# Altium footprint library Oscillator.PcbLib: 70 footprints (part 5 of 5)
Each footprint in its own frame and in the unit in brackets; x right, y up, seen from the top. Pads: shape width x height; smd on the part's side, far side on the other; paste and mask are expansions set on the pad; w line width, h text height; cw(c..) or ccw(c..) is an arc to the next point about the centre after c.
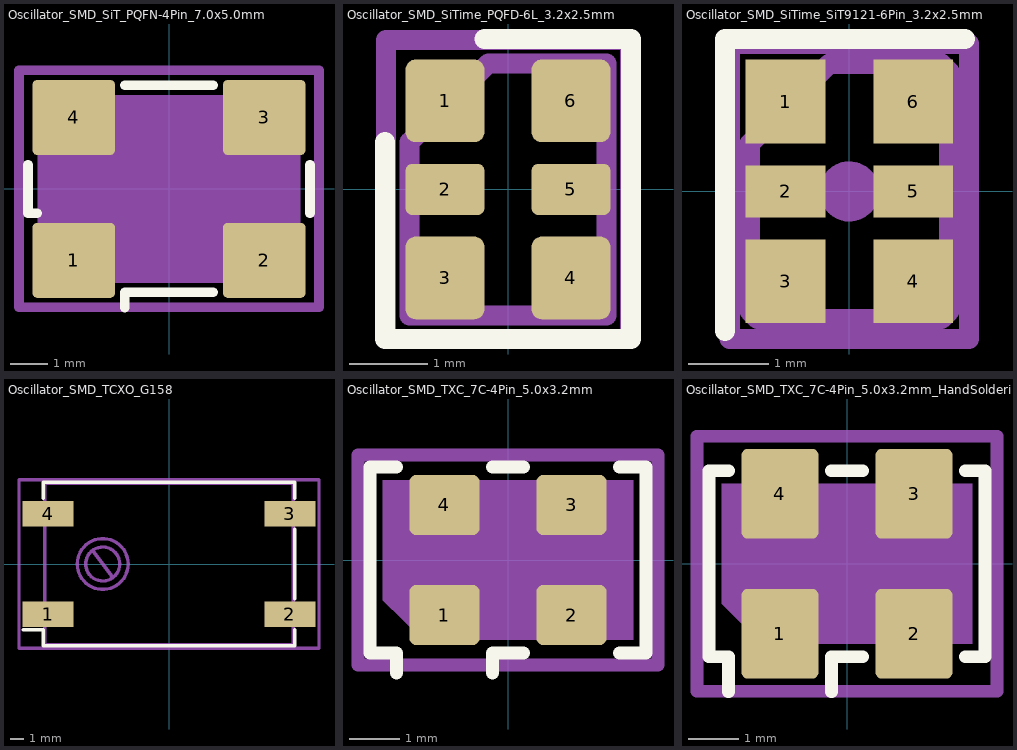
[diagram p4: the footprints below, top view; thin cyan lines are the x and y axes]

## Oscillator_SMD_SiT_PQFN-4Pin_7.0x5.0mm [mm]
pads (4):
  rrect12% 2.2x2 smd: 1(-2.54,-1.905) 2(2.54,-1.905) 3(2.54,1.905) 4(-2.54,1.905)
F.SilkS:
  lines w0.254: -3.76,0.645 -3.76,-0.645 -3.52,-0.645 ; -1.18,-3.165 -1.18,-2.76 1.18,-2.76 ; -1.18,2.76 1.18,2.76 ; 3.76,-0.645 3.76,0.645
Top Assembly:
  region: 3.5,-2.5 -2.5,-2.5 -3.5,-1.5 -3.5,2.5 3.5,2.5
  text "'.Designator'" at -4.047,-0.84 h1
Top Courtyard:
  lines w0.254: -4,-3.16 4,-3.16 4,3.16 -4,3.16 -4,-3.16
Top Designator:
  text ".Designator" at -7.652,-0.51 h1.52
Top Glue Points:
  circle w0.254: c0,0 r0.5

## Oscillator_SMD_SiTime_PQFD-6L_3.2x2.5mm [mm]
pads (6):
  rrect25% 1x1.05 smd: 1(-0.8,1.125) 3(-0.8,-1.125) 4(0.8,-1.125) 6(0.8,1.125)
  rrect25% 1x0.65 smd: 2(-0.8,0) 5(0.8,0)
F.SilkS:
  lines w0.254: -1.56,0.6 -1.56,-1.9 1.56,-1.9 1.56,1.905 ; -0.3,1.91 1.56,1.91
Top Assembly:
  lines w0.254: -1.25,-1.6 1.25,-1.6 1.25,1.6 -0.25,1.6 -1.25,0.6 -1.25,-1.6
  text "'.Designator'" at 0.588,-2.833 h0.7
Top Courtyard:
  lines w0.254: -1.55,-1.9 1.55,-1.9 1.55,1.9 -1.55,1.9 -1.55,-1.9
Top Designator:
  text ".Designator" at -7.618,-0.613 h1.52

## Oscillator_SMD_SiTime_SiT9121-6Pin_3.2x2.5mm [mm]
pads (6):
  rect 1x1.05 smd: 1(-0.8,1.125) 3(-0.8,-1.125) 4(0.8,-1.125) 6(0.8,1.125)
  rect 1x0.65 smd: 2(-0.8,0) 5(0.8,0)
F.SilkS:
  lines w0.254: -1.56,-1.75 -1.56,1.91 1.45,1.91
Top Assembly:
  lines w0.254: -1.25,-1.5 -1.15,-1.6 1.15,-1.6 1.25,-1.5 1.25,1.5 1.15,1.6 -0.25,1.6 -1.25,0.6 -1.25,-1.5
  text "'.Designator'" at 0.588,-2.833 h0.7
Top Courtyard:
  lines w0.254: -1.5,-1.85 1.5,-1.85 1.5,1.85 -1.5,1.85 -1.5,-1.85
Top Designator:
  text ".Designator" at -7.648,-0.613 h1.52
Top Glue Points:
  circle w0.254: c0,0 r0.25
  circle w0.254: c0,0 r0.208
  circle w0.254: c0,0 r0.133
  circle w0.254: c0,0 r0.058

## Oscillator_SMD_TCXO_G158 [mm]
pads (4):
  rect 3.81x1.91 smd: 1(-9.02,-3.75) 2(9.02,-3.75) 3(9.02,3.75) 4(-9.02,3.75)
F.SilkS:
  lines w0.254: -10.9,-4.9 -9.4,-4.9 -9.4,-6.1 9.4,-6.1 9.4,-4.9 ; -9.4,4.9 -9.4,6.1 9.4,6.1 9.4,4.9 ; 9.4,-2.6 9.4,2.6
Top Assembly:
  circle w0.254: c-4.95,0 r1.9
  circle w0.254: c-4.95,0 r1.27
  lines w0.254: -9.27,-6.03 9.27,-6.03 ; -9.27,-5.97 -9.27,5.97 ; -9.27,6.03 9.27,6.03 ; -5.71,1.02 -4.19,-1.02 ; 9.27,-5.97 9.27,5.97
  text "'.Designator'" at -4.047,-0.84 h1
Top Courtyard:
  lines w0.254: -11.2,-6.3 11.2,-6.3 11.2,6.3 -11.2,6.3 -11.2,-6.3
Top Designator:
  text ".Designator" at -7.618,-0.508 h1.52

## Oscillator_SMD_TXC_7C-4Pin_5.0x3.2mm [mm]
pads (4):
  rrect21% 1.4x1.2 smd: 1(-1.27,-1.1) 2(1.27,-1.1) 3(1.27,1.1) 4(-1.27,1.1)
F.SilkS:
  lines w0.254: -2.23,-2.26 -2.23,-1.86 -2.76,-1.86 -2.76,1.86 -2.23,1.86 ; -0.31,-2.26 -0.31,-1.86 0.31,-1.86 ; -0.31,1.86 0.31,1.86 ; 2.23,-1.86 2.76,-1.86 2.76,1.86 2.23,1.86
Top Assembly:
  region: 2.5,-1.6 -1.7,-1.6 -2.5,-0.8 -2.5,1.6 2.5,1.6
  text "'.Designator'" at -4.047,-0.84 h1
Top Courtyard:
  lines w0.254: -3,-2.1 3,-2.1 3,2.1 -3,2.1 -3,-2.1
Top Designator:
  text ".Designator" at -7.768,-0.588 h1.52
Top Glue Points:
  circle w0.254: c0,0 r0.5

## Oscillator_SMD_TXC_7C-4Pin_5.0x3.2mm_HandSoldering [mm]
pads (4):
  rrect16% 1.54x1.8 smd: 1(-1.34,-1.4) 2(1.34,-1.4) 3(1.34,1.4) 4(-1.34,1.4)
F.SilkS:
  lines w0.254: -2.37,-2.56 -2.37,-1.86 -2.76,-1.86 -2.76,1.86 -2.37,1.86 ; -0.31,-2.56 -0.31,-1.86 0.31,-1.86 ; -0.31,1.86 0.31,1.86 ; 2.37,-1.86 2.76,-1.86 2.76,1.86 2.37,1.86
Top Assembly:
  region: 2.5,-1.6 -1.7,-1.6 -2.5,-0.8 -2.5,1.6 2.5,1.6
  text "'.Designator'" at -4.047,-0.84 h1
Top Courtyard:
  lines w0.254: -3,-2.55 3,-2.55 3,2.55 -3,2.55 -3,-2.55
Top Designator:
  text ".Designator" at -7.768,-0.513 h1.52
Top Glue Points:
  circle w0.254: c0,0 r0.5